# Altium schematic symbol library LED_3D.SchLib: 1 symbol
Pins are listed as number, name and electrical type; pins without a type are passive.

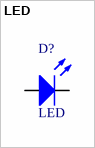
[diagram p0: symbol LED]

## LED
designator D?
Light Emitting Diode; Modified_by: BEP; Modified: 10.2008; Color: *
footprint LED_3216(1206) (LED, 3216(1206))
footprint LED100-3MM (LED, Pads 100mil, Diam 3mm)
footprint LED100-5MM (LED, Pads 100mil, Diam 5mm)
footprint LED100-3MM_G (LED, Pads 100mil, Diam 3mm Green)
footprint LED100-3MM_R (LED, Pads 100mil, Diam 3mm Red)
footprint LED100-3MM_Y (LED, Pads 100mil, Diam 3mm Yellow)
footprint LED100-5MM_G (LED, Pads 100mil, Diam 5mm Green)
footprint LED100-5MM_R (LED, Pads 100mil, Diam 5mm Red)
footprint LED100-5MM_Y (LED, Pads 100mil, Diam 5mm Yellow)
footprint LED_3216(1206)_G (LED, 3216(1206) Green)
footprint LED_3216(1206)_O (LED, 3216(1206) Orange)
footprint LED_3216(1206)_R (LED, 3216(1206) Red)
footprint LED_3216(1206)_Y (LED, 3216(1206) Yellow)
footprint LED_3216(1206)_B (LED, 3216(1206) Blue)
pins: 1 A, 2 K